# Altium footprint library ADC1X2200-10_V1-1.PcbLib: 38 footprints (part 1 of 3)
Each footprint in its own frame and in the unit in brackets; x right, y up, seen from the top. Pads: shape width x height; smd on the part's side, far side on the other; paste and mask are expansions set on the pad; w line width, h text height; cw(c..) or ccw(c..) is an arc to the next point about the centre after c.
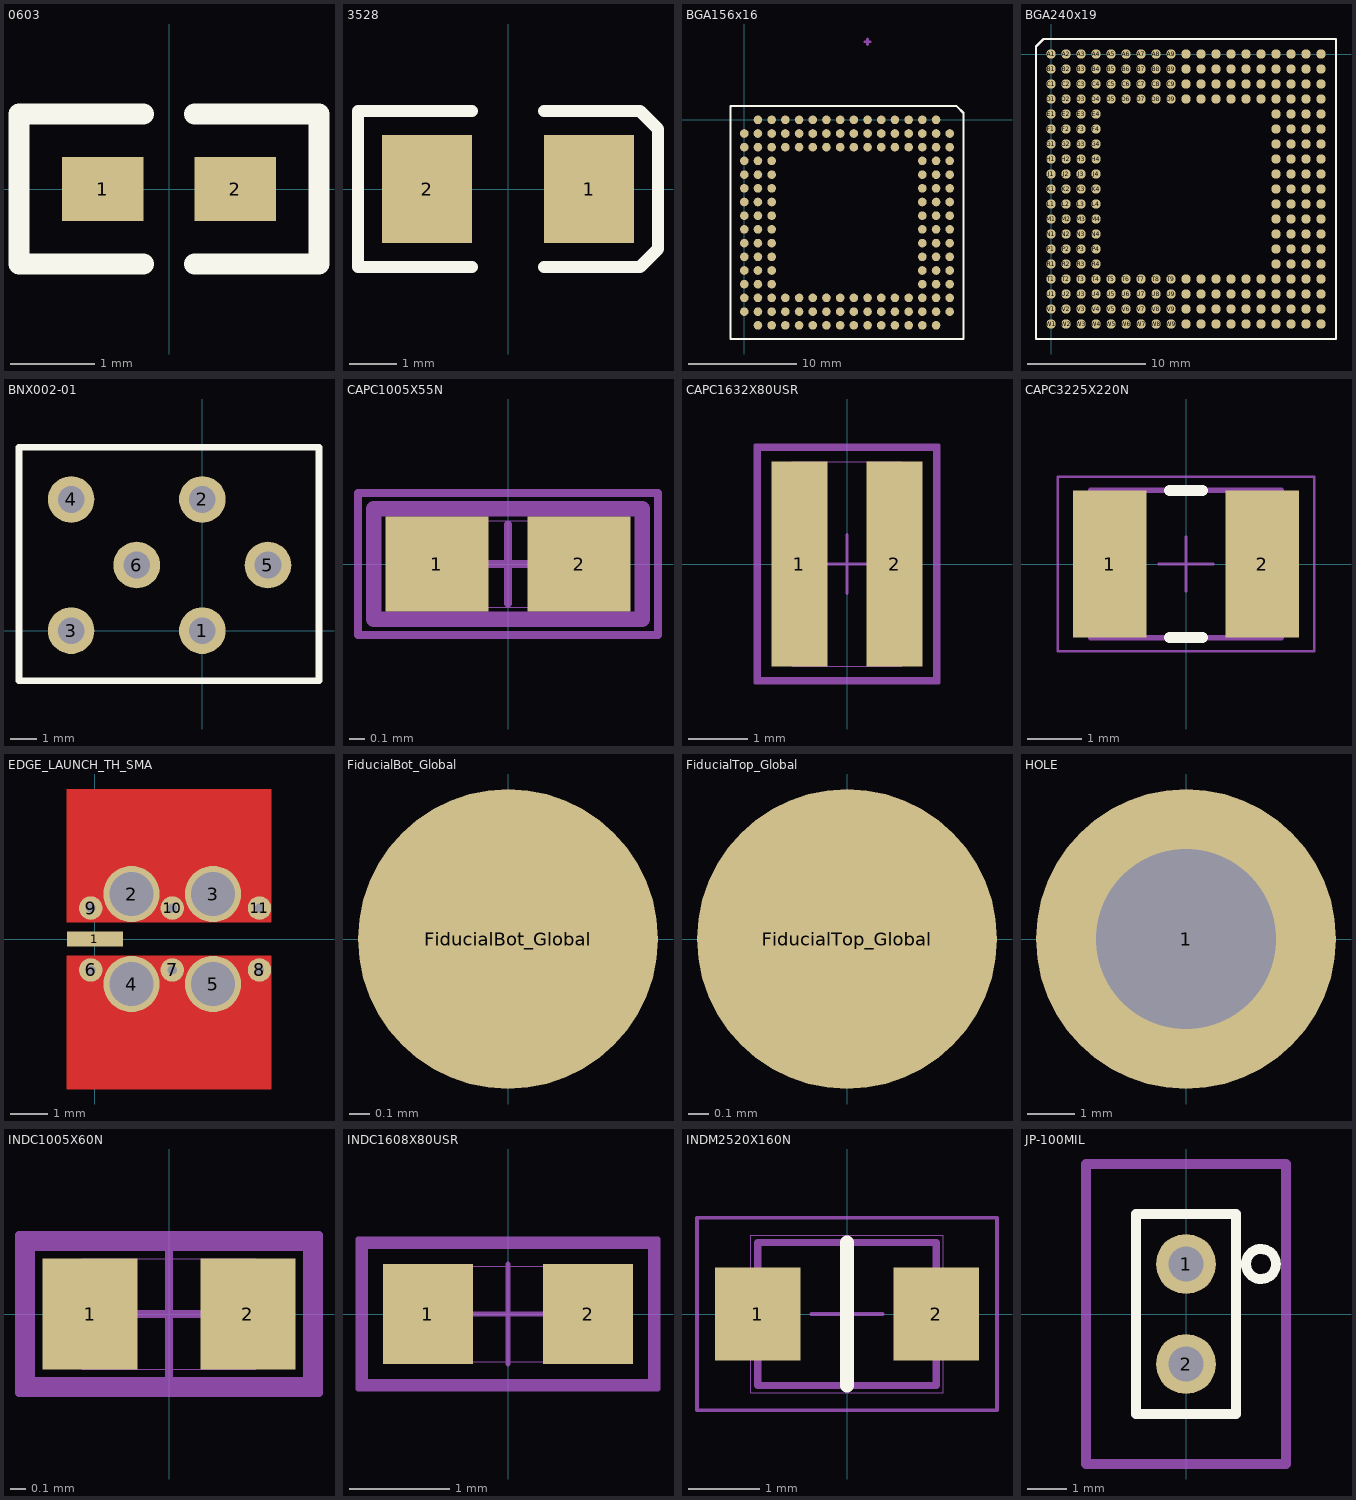
[diagram p0: the footprints below, top view; thin cyan lines are the x and y axes]

## 0603 [mil]
pads (2):
  rect 38x30 smd: 1(-31,0) 2(31,0)
Top Overlay:
  lines w10: -12,-35 -70,-35 -70,35 -12,35 ; 12,-35 70,-35 70,35 12,35
3D body: height 15.75, standoff -15.75, extent -31.5,-5 31.5,6.89

## 3528 [mil]
pads (2):
  rect 75x90 smd: 1(67.5,0) 2(-67.5,0)
Top Overlay:
  lines w10: -30,-65 -125,-65 -125,65 -30,65 ; 30,-65 110,-65 125,-50 125,50 110,65 30,65
Mechanical 13:
  text "C4" at -23.86,-15 h25
3D body: height 78.86, standoff -1.06, extent -72.83,-55.35 72.84,60

## BGA156x16 [mm] "CBGA 152 (1.27mm x 0.8mm BGA)"
pads (152):
  round 0.8 smd: A2(17.78,0) A3(16.51,0) A4(15.24,0) A5(13.97,0) A6(12.7,0) A7(11.43,0) A8(10.16,0) A9(8.89,0) A10(7.62,0) A11(6.35,0) A12(5.08,0) A13(3.81,0) A14(2.54,0) A15(1.27,0) B1(19.05,-1.27) B2(17.78,-1.27) B3(16.51,-1.27) B4(15.24,-1.27) B5(13.97,-1.27) B6(12.7,-1.27) B7(11.43,-1.27) B8(10.16,-1.27) B9(8.89,-1.27) B10(7.62,-1.27) B11(6.35,-1.27) B12(5.08,-1.27) B13(3.81,-1.27) B14(2.54,-1.27) B15(1.27,-1.27) B16(0,-1.27) C1(19.05,-2.54) C2(17.78,-2.54) C3(16.51,-2.54) C4(15.24,-2.54) C5(13.97,-2.54) C6(12.7,-2.54) C7(11.43,-2.54) C8(10.16,-2.54) C9(8.89,-2.54) C10(7.62,-2.54) C11(6.35,-2.54) C12(5.08,-2.54) C13(3.81,-2.54) C14(2.54,-2.54) C15(1.27,-2.54) C16(0,-2.54) D1(19.05,-3.81) D2(17.78,-3.81) D3(16.51,-3.81) D14(2.54,-3.81) D15(1.27,-3.81) D16(0,-3.81) E1(19.05,-5.08) E2(17.78,-5.08) E3(16.51,-5.08) E14(2.54,-5.08) E15(1.27,-5.08) E16(0,-5.08) F1(19.05,-6.35) F2(17.78,-6.35) F3(16.51,-6.35) F14(2.54,-6.35) F15(1.27,-6.35) F16(0,-6.35) G1(19.05,-7.62) G2(17.78,-7.62) G3(16.51,-7.62) G14(2.54,-7.62) G15(1.27,-7.62) G16(0,-7.62) H1(19.05,-8.89) H2(17.78,-8.89) H3(16.51,-8.89) H14(2.54,-8.89) H15(1.27,-8.89) H16(0,-8.89) J1(19.05,-10.16) J2(17.78,-10.16) J3(16.51,-10.16) J14(2.54,-10.16) J15(1.27,-10.16) J16(0,-10.16) K1(19.05,-11.43) K2(17.78,-11.43) K3(16.51,-11.43) K14(2.54,-11.43) K15(1.27,-11.43) K16(0,-11.43) L1(19.05,-12.7) L2(17.78,-12.7) L3(16.51,-12.7) L14(2.54,-12.7) L15(1.27,-12.7) L16(0,-12.7) M1(19.05,-13.97) M2(17.78,-13.97) M3(16.51,-13.97) M14(2.54,-13.97) M15(1.27,-13.97) M16(0,-13.97) N1(19.05,-15.24) N2(17.78,-15.24) N3(16.51,-15.24) N14(2.54,-15.24) N15(1.27,-15.24) N16(0,-15.24) P1(19.05,-16.51) P2(17.78,-16.51) P3(16.51,-16.51) P4(15.24,-16.51) P5(13.97,-16.51) P6(12.7,-16.51) P7(11.43,-16.51) P8(10.16,-16.51) P9(8.89,-16.51) P10(7.62,-16.51) P11(6.35,-16.51) P12(5.08,-16.51) P13(3.81,-16.51) P14(2.54,-16.51) P15(1.27,-16.51) P16(0,-16.51) Q1(19.05,-17.78) Q2(17.78,-17.78) Q3(16.51,-17.78) Q4(15.24,-17.78) Q5(13.97,-17.78) Q6(12.7,-17.78) Q7(11.43,-17.78) Q8(10.16,-17.78) Q9(8.89,-17.78) Q10(7.62,-17.78) Q11(6.35,-17.78) Q12(5.08,-17.78) Q13(3.81,-17.78) Q14(2.54,-17.78) Q15(1.27,-17.78) Q16(0,-17.78) R2(17.78,-19.05) R3(16.51,-19.05) R4(15.24,-19.05) R5(13.97,-19.05) R6(12.7,-19.05) R7(11.43,-19.05) R8(10.16,-19.05) R9(8.89,-19.05) R10(7.62,-19.05) R11(6.35,-19.05) R12(5.08,-19.05) R13(3.81,-19.05) R14(2.54,-19.05) R15(1.27,-19.05)
Top Overlay:
  lines w0.2: -1.27,-20.32 20.32,-20.32 20.32,0.635 19.685,1.27 -1.27,1.27 -1.27,-20.32
Mechanical 13:
  lines w0.254: 11.176,7.239 11.684,7.239 ; 11.43,6.985 11.43,7.493
  text "11.43,7.239 (mm)" at 11.684,7.239 h1.52
3D body: height 1.6, standoff 0, extent -1.016,-20.066 20.066,1.016
3D body: height 2.1, standoff 0, extent 5.779,-13.272 13.272,-5.779

## BGA240x19 [mm] "EBGA 240 (1.27mm x 0.8mm BGA)"
pads (240):
  round 0.8 smd: A1(0,0) A2(1.27,0) A3(2.54,0) A4(3.81,0) A5(5.08,0) A6(6.35,0) A7(7.62,0) A8(8.89,0) A9(10.16,0) A10(11.43,0) A11(12.7,0) A12(13.97,0) A13(15.24,0) A14(16.51,0) A15(17.78,0) A16(19.05,0) A17(20.32,0) A18(21.59,0) A19(22.86,0) B1(0,-1.27) B2(1.27,-1.27) B3(2.54,-1.27) B4(3.81,-1.27) B5(5.08,-1.27) B6(6.35,-1.27) B7(7.62,-1.27) B8(8.89,-1.27) B9(10.16,-1.27) B10(11.43,-1.27) B11(12.7,-1.27) B12(13.97,-1.27) B13(15.24,-1.27) B14(16.51,-1.27) B15(17.78,-1.27) B16(19.05,-1.27) B17(20.32,-1.27) B18(21.59,-1.27) B19(22.86,-1.27) C1(0,-2.54) C2(1.27,-2.54) C3(2.54,-2.54) C4(3.81,-2.54) C5(5.08,-2.54) C6(6.35,-2.54) C7(7.62,-2.54) C8(8.89,-2.54) C9(10.16,-2.54) C10(11.43,-2.54) C11(12.7,-2.54) C12(13.97,-2.54) C13(15.24,-2.54) C14(16.51,-2.54) C15(17.78,-2.54) C16(19.05,-2.54) C17(20.32,-2.54) C18(21.59,-2.54) C19(22.86,-2.54) D1(0,-3.81) D2(1.27,-3.81) D3(2.54,-3.81) D4(3.81,-3.81) D5(5.08,-3.81) D6(6.35,-3.81) D7(7.62,-3.81) D8(8.89,-3.81) D9(10.16,-3.81) D10(11.43,-3.81) D11(12.7,-3.81) D12(13.97,-3.81) D13(15.24,-3.81) D14(16.51,-3.81) D15(17.78,-3.81) D16(19.05,-3.81) D17(20.32,-3.81) D18(21.59,-3.81) D19(22.86,-3.81) E1(0,-5.08) E2(1.27,-5.08) E3(2.54,-5.08) E4(3.81,-5.08) E16(19.05,-5.08) E17(20.32,-5.08) E18(21.59,-5.08) E19(22.86,-5.08) F1(0,-6.35) F2(1.27,-6.35) F3(2.54,-6.35) F4(3.81,-6.35) F16(19.05,-6.35) F17(20.32,-6.35) F18(21.59,-6.35) F19(22.86,-6.35) G1(0,-7.62) G2(1.27,-7.62) G3(2.54,-7.62) G4(3.81,-7.62) G16(19.05,-7.62) G17(20.32,-7.62) G18(21.59,-7.62) G19(22.86,-7.62) H1(0,-8.89) H2(1.27,-8.89) H3(2.54,-8.89) H4(3.81,-8.89) H16(19.05,-8.89) H17(20.32,-8.89) H18(21.59,-8.89) H19(22.86,-8.89) J1(0,-10.16) J2(1.27,-10.16) J3(2.54,-10.16) J4(3.81,-10.16) J16(19.05,-10.16) J17(20.32,-10.16) J18(21.59,-10.16) J19(22.86,-10.16) K1(0,-11.43) K2(1.27,-11.43) K3(2.54,-11.43) K4(3.81,-11.43) K16(19.05,-11.43) K17(20.32,-11.43) K18(21.59,-11.43) K19(22.86,-11.43) L1(0,-12.7) L2(1.27,-12.7) L3(2.54,-12.7) L4(3.81,-12.7) L16(19.05,-12.7) L17(20.32,-12.7) L18(21.59,-12.7) L19(22.86,-12.7) M1(0,-13.97) M2(1.27,-13.97) M3(2.54,-13.97) M4(3.81,-13.97) M16(19.05,-13.97) M17(20.32,-13.97) M18(21.59,-13.97) M19(22.86,-13.97) N1(0,-15.24) N2(1.27,-15.24) N3(2.54,-15.24) N4(3.81,-15.24) N16(19.05,-15.24) N17(20.32,-15.24) N18(21.59,-15.24) N19(22.86,-15.24) P1(0,-16.51) P2(1.27,-16.51) P3(2.54,-16.51) P4(3.81,-16.51) P16(19.05,-16.51) P17(20.32,-16.51) P18(21.59,-16.51) P19(22.86,-16.51) R1(0,-17.78) R2(1.27,-17.78) R3(2.54,-17.78) R4(3.81,-17.78) R16(19.05,-17.78) R17(20.32,-17.78) R18(21.59,-17.78) R19(22.86,-17.78) T1(0,-19.05) T2(1.27,-19.05) T3(2.54,-19.05) T4(3.81,-19.05) T5(5.08,-19.05) T6(6.35,-19.05) T7(7.62,-19.05) T8(8.89,-19.05) T9(10.16,-19.05) T10(11.43,-19.05) T11(12.7,-19.05) T12(13.97,-19.05) T13(15.24,-19.05) T14(16.51,-19.05) T15(17.78,-19.05) T16(19.05,-19.05) T17(20.32,-19.05) T18(21.59,-19.05) T19(22.86,-19.05) U1(0,-20.32) U2(1.27,-20.32) U3(2.54,-20.32) U4(3.81,-20.32) U5(5.08,-20.32) U6(6.35,-20.32) U7(7.62,-20.32) U8(8.89,-20.32) U9(10.16,-20.32) U10(11.43,-20.32) U11(12.7,-20.32) U12(13.97,-20.32) U13(15.24,-20.32) U14(16.51,-20.32) U15(17.78,-20.32) U16(19.05,-20.32) U17(20.32,-20.32) U18(21.59,-20.32) U19(22.86,-20.32) V1(0,-21.59) V2(1.27,-21.59) V3(2.54,-21.59) V4(3.81,-21.59) V5(5.08,-21.59) V6(6.35,-21.59) V7(7.62,-21.59) V8(8.89,-21.59) V9(10.16,-21.59) V10(11.43,-21.59) V11(12.7,-21.59) V12(13.97,-21.59) V13(15.24,-21.59) V14(16.51,-21.59) V15(17.78,-21.59) V16(19.05,-21.59) V17(20.32,-21.59) V18(21.59,-21.59) V19(22.86,-21.59) W1(0,-22.86) W2(1.27,-22.86) W3(2.54,-22.86) W4(3.81,-22.86) W5(5.08,-22.86) W6(6.35,-22.86) W7(7.62,-22.86) W8(8.89,-22.86) W9(10.16,-22.86) W10(11.43,-22.86) W11(12.7,-22.86) W12(13.97,-22.86) W13(15.24,-22.86) W14(16.51,-22.86) W15(17.78,-22.86) W16(19.05,-22.86) W17(20.32,-22.86) W18(21.59,-22.86) W19(22.86,-22.86)
Top Overlay:
  lines w0.2: -1.27,-24.13 -1.27,0.635 -0.635,1.27 24.13,1.27 24.13,-24.13 -1.27,-24.13
3D body: height 1.2, standoff 0, extent -1.079,-23.939 23.94,1.08

## BNX002-01 [mil]
pads (6):
  round 70 hole 40: 1(0,0) 2(0,196.85) 3(-196.85,0) 4(-196.85,196.85) 5(98.43,98.43) 6(-98.43,98.43)
Top Overlay:
  lines w9.84: -275,-75 175,-75 175,275 -275,275 -275,-75
Mechanical 13:
  text "FILT1" at -275,-125 h25
3D body: height 551.18, standoff 0, extent -350,-115 125,315

## CAPC1005X55N [mm]
pads (2):
  rect 0.65x0.6 smd mask+0.05: 1(-0.45,0) 2(0.45,0)
Mechanical 1:
  lines w0.1: -0.85,-0.35 -0.85,0.35 0.85,0.35 0.85,-0.35 -0.85,-0.35
Mechanical 13:
  text "C100" at -0.443,-0.152 h0.25
Mechanical 16:
  lines w0.001: -0.525,-0.275 -0.525,0.275 0.525,0.275 0.525,-0.275 -0.525,-0.275
  lines w0.05: -0.25,0 0.25,0 ; 0,-0.25 0,0.25 ; -0.95,-0.45 -0.95,0.45 0.95,0.45 0.95,-0.45 -0.95,-0.45
3D body: height 0.5, standoff 0, extent -0.5,-0.25 0.5,0.25

## CAPC1632X80USR [mm]
pads (2):
  rect 0.95x3.45 smd: 1(-0.8,0) 2(0.8,0)
Mechanical 1:
  lines w0.1: -1.5,-1.95 1.5,-1.95 1.5,1.95 -1.5,1.95 -1.5,-1.95
Mechanical 13:
  text "C1" at -0.455,-0.381 h0.64
Mechanical 16:
  lines w0.001: -0.925,-1.725 0.925,-1.725 0.925,1.725 -0.925,1.725 -0.925,-1.725
  lines w0.05: -0.5,0 0.5,0 ; 0,-0.5 0,0.5 ; -1.55,-2 1.55,-2 1.55,2 -1.55,2 -1.55,-2
3D body: height 0.63, standoff -0.63, extent -1,-0.381 1,0.401

## CAPC3225X220N [mm]
pads (2):
  rect 1.35x2.7 smd mask+0.05: 1(-1.4,0) 2(1.4,0)
Top Overlay:
  lines w0.2: -0.3,-1.35 0.3,-1.35 ; -0.3,1.35 0.3,1.35
Mechanical 1:
  lines w0.1: -1.75,-1.35 1.75,-1.35 1.75,1.35 -1.75,1.35 -1.75,-1.35
Mechanical 13:
  text "C105" at -1.106,-0.381 h0.64
Mechanical 16:
  lines w0.001: -1.75,-1.35 1.75,-1.35 1.75,1.35 -1.75,1.35 -1.75,-1.35
  lines w0.05: -0.5,0 0.5,0 ; 0,-0.5 0,0.5 ; -2.35,-1.6 2.35,-1.6 2.35,1.6 -2.35,1.6 -2.35,-1.6
3D body: height 2.5, standoff 0, extent -1.6,-1.25 1.6,1.25

## EDGE_LAUNCH_TH_SMA [mil]
pads (11):
  rect 60x16 smd: 1(0,0)
  round 60 hole 47.24: 2(39,48) 3(126,48) 4(39,-48) 5(126,-48)
  round 25 / inner round 60 / far side round 60 hole 9.84: 6(-4.5,-33) 7(82.5,-33) 8(175.5,-33) 9(-4.5,33) 10(82.5,33) 11(175.5,33)
Top Layer:
  region: -30,160 -30,18 188,18 188,160
  region: -30,-18 -30,-160 188,-160 188,-18
  region: -30,160 -30,18 188,18 188,160
  region: -30,-18 -30,-160 188,-160 188,-18
Top Solder:
  region: -30,-18 -30,-160 188,-160 188,-18
  region: -30,160 -30,18 188,18 188,160
3D body: height 125, standoff -125, extent -409.8,-124.99 115,125

## FiducialBot_Global [mm] "1.5mm x 1.5mm"
height 1.4
pads (1):
  round 1.5 smd paste-2 mask+1: FiducialBot_Global(0,0)

## FiducialTop_Global [mm] "1.5mm x 1.5mm"
height 1.4
pads (1):
  round 1.5 smd paste-2 mask+1: FiducialTop_Global(0,0)

## HOLE [mm]
pads (1):
  round 6.35 / inner round 1.524 / far side round 1.524 hole 3.8: 1(0,0)

## INDC1005X60N [mm]
pads (2):
  rect 0.6x0.7 smd: 1(-0.5,0) 2(0.5,0)
Mechanical 1:
  lines w0.1: -0.9,-0.45 0.9,-0.45 0.9,0.45 -0.9,0.45 -0.9,-0.45
Mechanical 13:
  text "L7" at -0.197,-0.152 h0.25
Mechanical 16:
  lines w0.001: -0.55,-0.35 0.55,-0.35 0.55,0.35 -0.55,0.35 -0.55,-0.35
  lines w0.05: -0.5,0 0.5,0 ; 0,-0.5 0,0.5 ; -0.95,-0.5 0.95,-0.5 0.95,0.5 -0.95,0.5 -0.95,-0.5

## INDC1608X80USR [mm]
pads (2):
  rect 0.9x1 smd: 1(-0.8,0) 2(0.8,0)
Mechanical 1:
  lines w0.1: -1.45,-0.7 -1.45,0.7 1.45,0.7 1.45,-0.7 -1.45,-0.7
Mechanical 13:
  text "L3" at -0.491,-0.381 h0.64
Mechanical 16:
  lines w0.001: -0.875,-0.475 -0.875,0.475 0.875,0.475 0.875,-0.475 -0.875,-0.475
  lines w0.05: -0.5,0 0.5,0 ; 0,-0.5 0,0.5 ; -1.5,-0.75 -1.5,0.75 1.5,0.75 1.5,-0.75 -1.5,-0.75

## INDM2520X160N [mm]
pads (2):
  rect 1.2x1.3 smd: 1(-1.25,0) 2(1.25,0)
Top Overlay:
  lines w0.2: 0,-1 0,1
Mechanical 1:
  lines w0.1: -1.25,-1 -1.25,1 1.25,1 1.25,-1 -1.25,-1
Mechanical 13:
  text "L1" at -0.355,-0.381 h0.64
Mechanical 16:
  lines w0.001: -1.35,-1.1 -1.35,1.1 1.35,1.1 1.35,-1.1 -1.35,-1.1
  lines w0.05: -0.5,0 0.5,0 ; 0,-0.5 0,0.5 ; -2.1,-1.35 -2.1,1.35 2.1,1.35 2.1,-1.35 -2.1,-1.35

## JP-100MIL [mil]
pads (2):
  round 60 hole 35.43: 1(0,50) 2(0,-50)
Top Overlay:
  circle w9.84: c75,50 r15
  lines w9.84: -50,-100 -50,100 50,100 50,-100 -50,-100
Mechanical 13:
  text "JP1" at -25.77,-15 h25
Mechanical 16:
  lines w9.84: -100,-150 -100,150 100,150 100,-150 -100,-150 ; -50,-100 -50,100 50,100 50,-100 -50,-100
3D body: height 438.74, standoff -121.26, extent -47,-95 45,95